# Altium schematic symbol library ESD.SchLib: 13 symbols
Pins are listed as number, name and electrical type; pins without a type are passive.

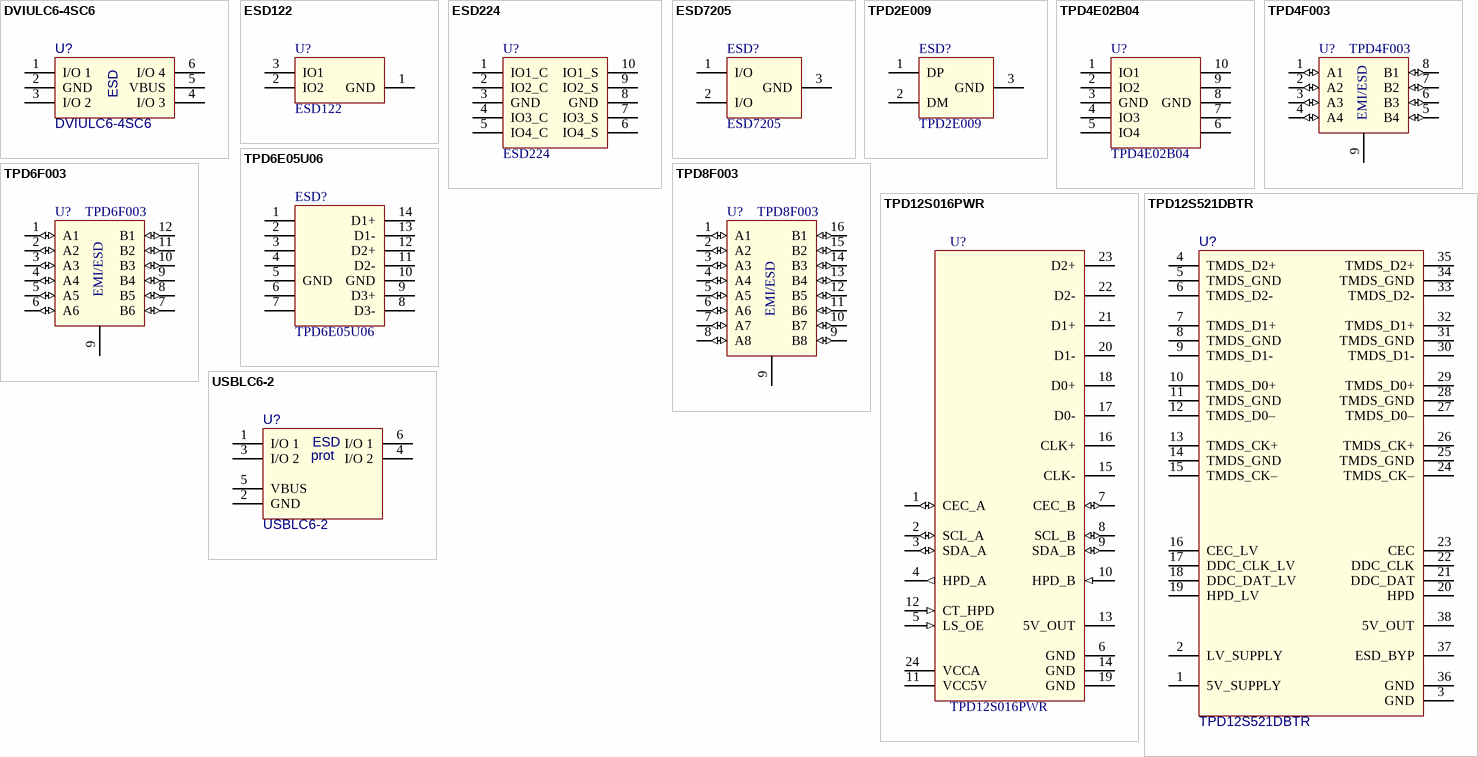
[diagram p0: symbols DVIULC6-4SC6 to USBLC6-2]

## DVIULC6-4SC6
designator U?
Ultralow capacitance ESD protection; value: DVIULC6-4SC6
footprint SOT-23-6 (Footprint not found)
pins: 1 I/O 1, 2 GND (power), 3 I/O 2, 4 I/O 3, 5 VBUS, 6 I/O 4
text: ESD

## ESD122
designator U?
ESD224 Low Clamping 4-Channel ESD Protection Device for HDMI Interface; Value: ESD122
footprint X2SON-3 (X2SON, 3-Leads, Body 1.30x0.60mm, Pitch 0.25mm, IPC Medium Density)
pins: 1 GND, 2 IO2 "ESD protected channel to be connected to the connector", 3 IO1 "ESD protected channel to be connected to the connector"

## ESD224
designator U?
ESD224 Low Clamping 4-Channel ESD Protection Device for HDMI Interface; Value: ESD224
footprint USON-10 (USON, 10-Leads, Body 2,50x1,00mm, Pitch 0,50mm, IPC Medium Density)
pins: 1 IO1_C "ESD protected channel to be connected to the connector", 2 IO2_C "ESD protected channel to be connected to the connector", 3 GND, 4 IO3_C "ESD protected channel to be connected to the connector", 5 IO4_C "ESD protected channel to be connected to the connector", 6 IO4_S, 7 IO3_S, 8 GND, 9 IO2_S, 10 IO1_S

## ESD7205
designator ESD?
Low Capacitance 0.4 pF ESD Protection Diodes for High Speed Data Line; Value: ESD7205
footprint SOT-323-3 (SC-70) (SC-70, 3-Leads, Body 2,00x2,10mm, Pitch 0,65mm, IPC Medium Density)
footprint SOT-723 (631AA) (SOT-723, 3-Leads, Body 1.20x0.8x0.5mm, Pitch 0.4mm, IPC Medium Density)
pins: 1 I/O, 2 I/O, 3 GND (power)

## TPD2E009
designator ESD?
2-Channel ESD Solution for High-Speed (6-Gbps) Differential Interface
footprint SOT-23-3
footprint SOT-9X3 (1mm x 1mm)
pins: 1 DP, 2 DM, 3 GND (power)

## TPD4E02B04
designator U?
4-Channel ESD Protection Diode for USB Type-C and HDMI 2.0; Value: TPD4E02B04
footprint USON-10 (USON, 10-Leads, Body 2,50x1,00mm, Pitch 0,50mm, IPC Medium Density)
pins: 1 IO1 "ESD protected channel to be connected to the connector", 2 IO2 "ESD protected channel to be connected to the connector", 3 GND, 4 IO3 "ESD protected channel to be connected to the connector", 5 IO4 "ESD protected channel to be connected to the connector", 6, 7, 8 GND, 9, 10

## TPD4F003
designator U?
4-channel EMI filter with Integrated ESD protection; value: TPD4F003DQDR
pins: 1 A1 (io), 2 A2 (io), 3 A3 (io), 4 A4 (io), 5 B4 (io), 6 B3 (io), 7 B2 (io), 8 B1 (io), 9 PAD (power)
text: EMI/ESD

## TPD6E05U06
designator ESD?
6 Channel ESD Protection Device for Super-Speed (Up to 6 Gbps)  Interface
pins: 1 NC, 2 NC, 3 NC, 4 NC, 5 GND, 6 NC, 7 NC, 8 D3-, 9 D3+, 10 GND, 11 D2-, 12 D2+, 13 D1-, 14 D1+

## TPD6F003
designator U?
6-channel EMI filter with Integrated ESD protection; value: TPD6F003DQDR
pins: 1 A1 (io), 2 A2 (io), 3 A3 (io), 4 A4 (io), 5 A5 (io), 6 A6 (io), 7 B6 (io), 8 B5 (io), 9 B4 (io), 9 PAD (power), 10 B3 (io), 11 B2 (io), 12 B1 (io)
text: EMI/ESD

## TPD8F003
designator U?
8-channel EMI filter with Integrated ESD protection; value: TPD8F003DQDR
pins: 1 A1 (io), 2 A2 (io), 3 A3 (io), 4 A4 (io), 5 A5 (io), 6 A6 (io), 7 A7 (io), 8 A8 (io), 9 PAD (power), 9 B8 (io), 10 B7 (io), 11 B6 (io), 12 B5 (io), 13 B4 (io), 14 B3 (io), 15 B2 (io), 16 B1 (io)
text: EMI/ESD

## TPD12S016PWR
designator U?
TPD12S016 HDMI Companion Chip with I  2C Level Shifting Buffer,  12-Channel ESD Protection, and Current-Limit Load Switch; value: TPD12S016PWR
footprint SSOP-24 (Footprint not found)
pins: 1 CEC_A (io), 2 SCL_A (io), 3 SDA_A (io), 4 HPD_A (out), 5 LS_OE (in), 6 GND (power), 7 CEC_B (io), 8 SCL_B (io), 9 SDA_B (io), 10 HPD_B (in), 11 VCC5V (power), 12 CT_HPD  (in), 13 5V_OUT (power), 14 GND (power), 15 CLK-, 16 CLK+, 17 D0-, 18 D0+, 19 GND (power), 20 D1-, 21 D1+, 22 D2-, 23 D2+, 24 VCCA (power)

## TPD12S521DBTR
designator U?
Single-Chip HDMI Transmitter Port Protection and Interface Device; value: TPD12S521DBTR
footprint TSSOP-38 (DBT0038A) (Footprint not found)
pins: 1 5V_SUPPLY (power), 2 LV_SUPPLY (power), 3 GND (power), 4 TMDS_D2+, 5 TMDS_GND, 6 TMDS_D2-, 7 TMDS_D1+, 8 TMDS_GND, 9 TMDS_D1-, 10 TMDS_D0+, 11 TMDS_GND, 12 TMDS_D0–, 13 TMDS_CK+, 14 TMDS_GND, 15 TMDS_CK–, 16 CEC_LV, 17 DDC_CLK_LV, 18 DDC_DAT_LV, 19 HPD_LV, 20 HPD, 21 DDC_DAT, 22 DDC_CLK, 23 CEC, 24 TMDS_CK–, 25 TMDS_GND, 26 TMDS_CK+, 27 TMDS_D0–, 28 TMDS_GND, 29 TMDS_D0+, 30 TMDS_D1-, 31 TMDS_GND, 32 TMDS_D1+, 33 TMDS_D2-, 34 TMDS_GND, 35 TMDS_D2+, 36 GND, 37 ESD_BYP, 38 5V_OUT (power)

## USBLC6-2
designator U?
Ultralow capacitance ESD protection; value: USBLC6-2
footprint SOT-23-6 (SOT23, 6-Leads, Body 2.9x1.6mm, Pitch 0.95mm, Lead Span 2.8mm, IPC Medium Density)
pins: 1 I/O 1, 2 GND (power), 3 I/O 2, 4 I/O 2, 5 VBUS, 6 I/O 1
text: ESD; prot